# Altium schematic symbol library ALTAIR_PD_Converters.SchLib: 2 symbols
Pins are listed as number, name and electrical type; pins without a type are passive.

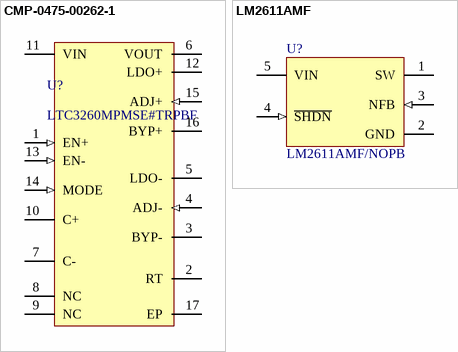
[diagram p0: symbols CMP-0475-00262-1 to LM2611AMF]

## CMP-0475-00262-1
designator U?, comment LTC3260MPMSE#TRPBF
Low Noise Dual Supply Inverting Charge Pump, 4.5 to 32 V Vin, Adjustable Vout, 16-pin SOP (MSE-16-EDP), -50 to 150 degC, Pb-Free, Tape and Reel; Manufacturer: Linear Technology; Voutput: Adj; Isupply(mA): 0.1; Vin Max(V): 32; Frequency(kHz): 500; Max Iout(mA): 100; Ishutdown(uA): 2; Vin Min(V): 4.5; RoHS: TRUE; ComponentLink1URL: http://www.linear.com/; Packing: Tape and Reel; ComponentLink3Description: Package Specification; ComponentLink3URL: http://cds.linear.com/docs/en/packaging/05081667_F_MSE16.pdf; Mounting Technology: Surface Mount; PackageReference: MSE-16; PackageDescription: 16-Pin Plastic MSOP, Exposed Die Pad, Body 4.039 x 3 mm, Pitch 0.5 mm; ComponentLink1Description: Manufacturer URL; ComponentLink2URL: http://cds.linear.com/docs/en/datasheet/3260fa.pdf; PartNumber: LTC3260MPMSE#TRPBF; PackageVersion: Rev. F, 05/2013; ComponentLink2Description: Datasheet; DatasheetVersion: Rev. A
footprint LT-MSE-16-EDP_M (SOP, 16-Leads, Body 4.1x3.1mm, Pitch 0.5mm, Thermal Pad 2.95x1.76mm, IPC Low Density)
footprint LT-MSE-16-EDP_N (SOP, 16-Leads, Body 4.1x3.1mm, Pitch 0.5mm, Thermal Pad 2.95x1.76mm, IPC Medium Density)
footprint LT-MSE-16-EDP_L (SOP, 16-Leads, Body 4.1x3.1mm, Pitch 0.5mm, Thermal Pad 2.95x1.76mm, IPC High Density)
pins: 1 EN+ (in) "Logic Input. A logic “high” on the EN+ pin enables the positive low dropout (LDO+) regulator.", 2 RT "Input Connection for Programming the Switching Frequency. The RT pin servos to a fixed 1.2V when the EN- pin is driven to a logic “high”. A resistor from RT to GND sets the charge pump switching frequency. If the RT (See Datasheet)", 3 BYP- "LDO- Reference Bypass Pin. Connect a capacitor from BYP- to GND to reduce LDO- output noise. Leave floating if unused.", 4 ADJ- (in) "Feedback Input for the Negative Low Dropout Regulator. This pin servos to a fixed voltage of -1.2V when the control loop is complete.", 5 LDO- (power) "Negative Low Dropout (LDO-) Linear Regulator Output. This pin requires a low ESR (equivalent series resistance) capacitor with at least 2uF capacitance to ground for stability.", 6 VOUT (power) "Charge Pump Output Voltage. In constant frequency mode (MODE = low) this pin is driven to -VIN. In Burst Mode operation, (MODE = high) this pin voltage is regulated to -0.94 • VIN using an internal burst comparator wit(See Datasheet)", 7 C- "Flying Capacitor Negative Connection.", 8 NC "No Connect. These pins are not connected to the LTC3260 die. These pins should be left floating, connected to ground or shorted to adjacent pins.", 9 NC "No Connect. These pins are not connected to the LTC3260 die. These pins should be left floating, connected to ground or shorted to adjacent pins.", 10 C+ "Flying Capacitor Positive Connection.", 11 VIN (power) "Input Voltage for Both Charge Pump and Positive Low Dropout (LDO+) Regulator. VIN should be bypassed with a low impedance ceramic capacitor", 12 LDO+ (power) "Positive Low Dropout (LDO+) Output. This pin requires a low ESR capacitor with at least 2uF capacitance to ground for stability.", 13 EN- (in) "Logic Input. A logic “high” on the EN- pin enables the inverting charge pump as well as the negative LDO regulator.", 14 MODE (in) "Logic Input. The MODE pin determines the charge pump operating mode. A logic “high” on the MODE pin forces the charge pump to operate in Burst Mode operation regulating VOUT to approximately -0.94 • VIN with hyste(See Datasheet)", 15 ADJ+ (in) "Feedback Input for the Positive Low Dropout (LDO+) Regulator. This pin servos to a fixed voltage of 1.2V when the control loop is complete.", 16 BYP+ "LDO+ Reference Bypass Pin. Connect a capacitor from BYP+ to GND to reduce LDO+ output noise. Leave floating if unused.", 17 EP (power) "Ground. The exposed package pad is ground and must be soldered to the PC board ground plane for proper functionality and for rated thermal performance."

## LM2611AMF
designator U?, comment LM2611AMF/NOPB
1.4MHz Cuk Converter, 5-pin SOT-23, Pb-Free; Manufacturer: Texas Instruments; PowerWise: N; CompType: Switcher; PackageTopMarking: S40A*XTT; ComponentLink1URL: http://www.ti.com/general/docs/lit/getliterature.tsp?genericPartNumber=LM2611&fileType=pdf; PackageDescription: Molded SOT-23, .115 x .063 x .040 in Body, 5 Lead, .0375 in Pitch; ComponentLink1Description: Datasheet URL; PackageReference: DBV0005A; PinCount: 5; RoHS: Y
footprint SOT23-5 MID DENSITY (SOT23, 5-Leads, Body 3.05x1.75mm, Pitch 0.95mm, IPC Medium Density)
pins: 1 SW (power), 2 GND (power), 3 NFB (in), 4 ~{SHDN} (in), 5 VIN (power)